# EAGLE library part 18X2HEADER2.54MM (library ArduinoMegaShield2)
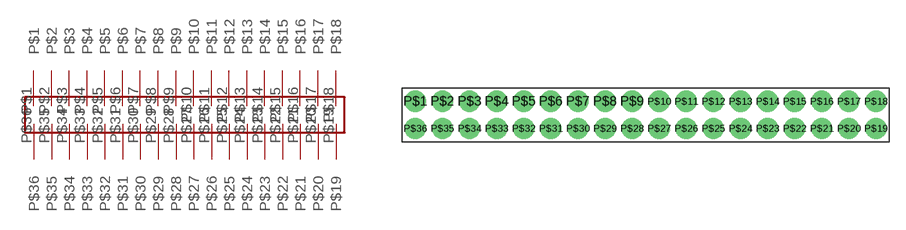
[diagram p2: symbol with the pads of 18X2HEADER2.54MM; footprint 18X2HEADER2.54MM]

Designator prefix -

## 18X2HEADER2.54MM  [18X2HEADER2.54MM]
P$1  P$1
P$2  P$2
P$3  P$3
P$4  P$4
P$5  P$5
P$6  P$6
P$7  P$7
P$8  P$8
P$9  P$9
P$10  P$10
P$11  P$11
P$12  P$12
P$13  P$13
P$14  P$14
P$15  P$15
P$16  P$16
P$17  P$17
P$18  P$18
P$19  P$19
P$20  P$20
P$21  P$21
P$22  P$22
P$23  P$23
P$24  P$24
P$25  P$25
P$26  P$26
P$27  P$27
P$28  P$28
P$29  P$29
P$30  P$30
P$31  P$31
P$32  P$32
P$33  P$33
P$34  P$34
P$35  P$35
P$36  P$36

## Footprint 18X2HEADER2.54MM (pad centres in mm)
drill 1.1 pad 2: P$1 -21.59,1.27; P$2 -19.05,1.27; P$3 -16.51,1.27; P$4 -13.97,1.27; P$5 -11.43,1.27; P$6 -8.89,1.27; P$7 -6.35,1.27; P$8 -3.81,1.27; P$9 -1.27,1.27; P$10 1.27,1.27; P$11 3.81,1.27; P$12 6.35,1.27; P$13 8.89,1.27; P$14 11.43,1.27; P$15 13.97,1.27; P$16 16.51,1.27; P$17 19.05,1.27; P$18 21.59,1.27; P$19 21.59,-1.27; P$20 19.05,-1.27; P$21 16.51,-1.27; P$22 13.97,-1.27; P$23 11.43,-1.27; P$24 8.89,-1.27; P$25 6.35,-1.27; P$26 3.81,-1.27; P$27 1.27,-1.27; P$28 -1.27,-1.27; P$29 -3.81,-1.27; P$30 -6.35,-1.27; P$31 -8.89,-1.27; P$32 -11.43,-1.27; P$33 -13.97,-1.27; P$34 -16.51,-1.27; P$35 -19.05,-1.27; P$36 -21.59,-1.27